# EAGLE library part HEV2AN-P (library Panasonic Relay)
HE-V - 2 Form A - Single side stable Data sheet <https://www.panasonic-electric-works.com/eu/download.htm?id=55829> Parameters Max. switching voltage: 1000 V Max. switching current: 25A Operational function: Single side stable Contact arrangement: 2 NO Applications Photovoltaic power generation systems (PV inverters, PV combiners): Suitable for NEC 2014 section 690.12 Rapid shut down Battery charge and discharge systems Inverter control, DC load control, etc.
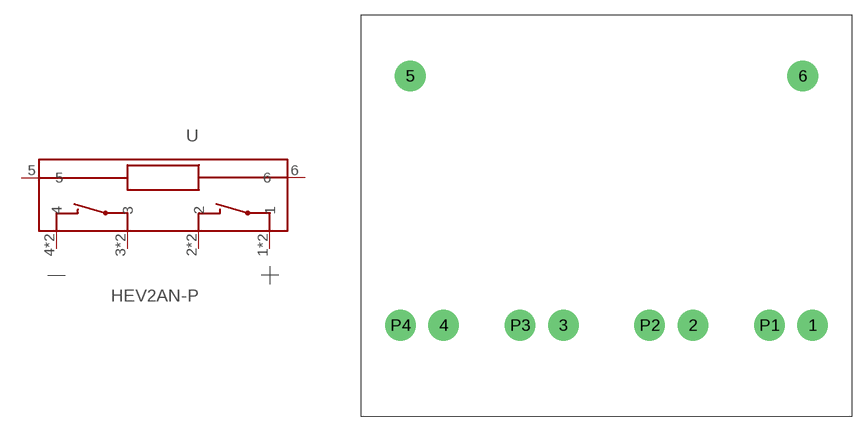
[diagram p44: symbol with the pads of HE-V_2_FORM_A; footprint HE-V_2_FORM_A]

Designator prefix -

## HEV2AN-P-DC12V (U_COIL: 12V DC), HEV2AN-P-DC15V (U_COIL: 15V DC), HEV2AN-P-DC24V (U_COIL: 24V DC), HEV2AN-P-DC6V (U_COIL: 6V DC), HEV2AN-P-DC9V (U_COIL: 9V DC)  [HE-V_2_FORM_A]
1  1
2  2
3  3
4  4
5  5
6  6
P1  1
P2  2
P3  3
P4  4

## Footprint HE-V_2_FORM_A (pad centres in mm)
drill 2.1: 1 21,-11.15; 2 8.8,-11.15; 3 -4.4,-11.15; 4 -16.6,-11.15; 5 -20,14.25; 6 20,14.25; P1 16.6,-11.15; P2 4.4,-11.15; P3 -8.8,-11.15; P4 -21,-11.15